# EAGLE library part FJ_FALCO (library JLB6_Connec)
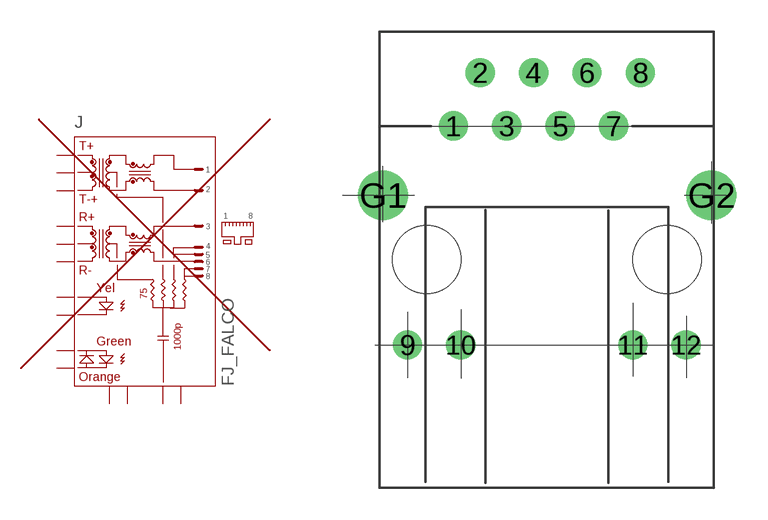
[diagram p8: symbol with the pads of FJ_FALCO; footprint FJ_FALCO]

Designator prefix J

## FJ_FALCO  [FJ_FALCO]
1  TD+
2  TCT
3  TD-
4  RD+
5  RCT
6  RD-
7  NC
8  NC
9  L1A
10  L1C
11  L2C
12  L2A
G1  SHIELD
G2  SHIELD

## Footprint FJ_FALCO (pad centres in mm)
drill 0.889: 1 -4.445,6.35; 2 -3.175,8.89; 3 -1.905,6.35; 4 -0.635,8.89; 5 0.635,6.35; 6 1.905,8.89; 7 3.175,6.35; 8 4.445,8.89; 9 -6.629,-4.064; 10 -4.089,-4.064; 11 4.089,-4.064; 12 6.629,-4.064
drill 1.575 pad 2.184: G1 -7.798,3.048; G2 7.823,3.048
hole 3.251 at -5.715,0
hole 3.251 at 5.715,0